# Altium integrated library Microchip Microcontroller 8-Bit PIC16 2.IntLib: 1656 symbols (part 36 of 56)
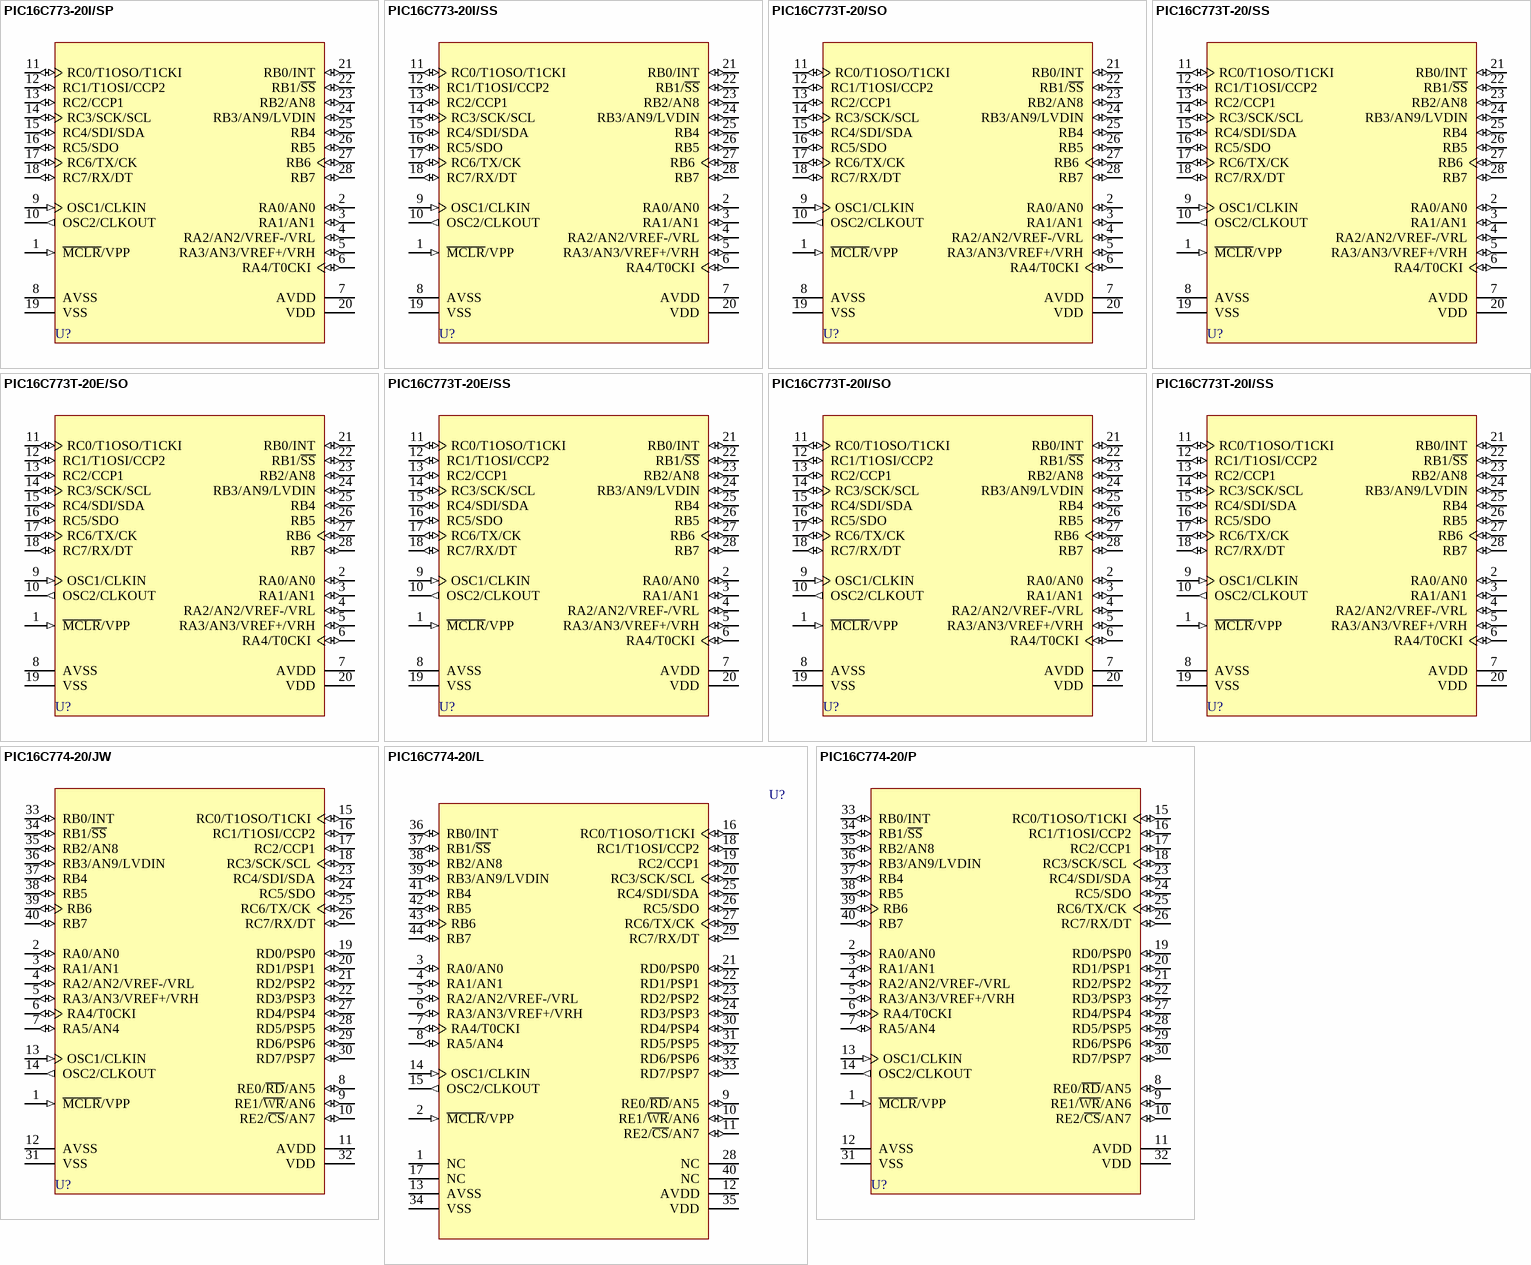
[diagram p143: symbols PIC16C773-20I/SP to PIC16C774-20/P]

## PIC16C773T-20E/SS
designator U?
8-Bit CMOS Microcontroller with 12-Bit A/D, 4K x 14 words EPROM, 256 x 8 Bytes RAM, 28-Pin SSOP, 4.0 to 5.5V Supply Range, Extended Temperature, Tape and Reel; Note: 25mA source/sink per I/O.; Published: 11-Oct-2004; LatestRevisionDate: 04-Mar-2005; LatestRevisionNote: Stylized 3D Model Added.; DatasheetVersion: DS30275A_1999; PackageVersion: 2005; PackageReference: SSOP-28; Publisher: Altium Limited; PackageDescription: SSOP, Plastic; 28 Leads; Body Width 5.2 mm; Pitch 0.65 mm; Code_JEDEC: MS-150; ComponentLink1Description: Manufacturer Link; ComponentLink1URL: http://www.microchip.com; ComponentLink2Description: Datasheet; ComponentLink2URL: http://ww1.microchip.com/downloads/en/DeviceDoc/30275a.pdf; ComponentLink3Description: Packaging Specification; ComponentLink3URL: http://ww1.microchip.com/downloads/en/PackagingSpec/00049AD.pdf
footprint SSOP-28 (SSOP, Plastic; 28 Leads; Body Width 5.2 mm; Pitch 0.65 mm)
3D model SSOP-28 (SSOP, Plastic; 28 Leads; Body Width 5.2 mm; Pitch 0.65 mm)
pins: 1 ~{MCLR}/VPP (in), 2 RA0/AN0 (io), 3 RA1/AN1 (io), 4 RA2/AN2/VREF-/VRL (io), 5 RA3/AN3/VREF+/VRH (io), 6 RA4/T0CKI (io), 7 AVDD (power), 8 AVSS (power), 9 OSC1/CLKIN (in), 10 OSC2/CLKOUT (out), 11 RC0/T1OSO/T1CKI (io), 12 RC1/T1OSI/CCP2 (io), 13 RC2/CCP1 (io), 14 RC3/SCK/SCL (io), 15 RC4/SDI/SDA (io), 16 RC5/SDO (io), 17 RC6/TX/CK (io), 18 RC7/RX/DT (io), 19 VSS (power), 20 VDD (power), 21 RB0/INT (io), 22 RB1/~{SS} (io), 23 RB2/AN8 (io), 24 RB3/AN9/LVDIN (io), 25 RB4 (io), 26 RB5 (io), 27 RB6 (io), 28 RB7 (io)

## PIC16C773T-20I/SO
designator U?
8-Bit CMOS Microcontroller with 12-Bit A/D, 4K x 14 words EPROM, 256 x 8 Bytes RAM, 28-Pin SOIC, 4.0 to 5.5V Supply Range, Industrial Temperature, Tape and Reel; Note: 25mA source/sink per I/O.; Published: 11-Oct-2004; LatestRevisionDate: 13-Apr-2006; LatestRevisionNote: IPC-7351 Footprint Added.; DatasheetVersion: DS30275A_1999; PackageVersion: 2005; PackageReference: SOIC300-28; Publisher: Altium Limited; PackageDescription: 28-Pin Small Outline Integrated Circuit 1.27 mm Pitch; Code_JEDEC: MS-013; ComponentLink1Description: Manufacturer Link; ComponentLink1URL: http://www.microchip.com; ComponentLink2Description: Datasheet; ComponentLink2URL: http://ww1.microchip.com/downloads/en/DeviceDoc/30275a.pdf; ComponentLink3Description: Packaging Specification; ComponentLink3URL: http://ww1.microchip.com/downloads/en/PackagingSpec/00049AD.pdf
footprint SOIC300-28_N (SOIC, 28-Leads, Body 17.9x7.5mm, Pitch 1.27mm, IPC Medium Density)
footprint SOIC300-28_L (SOIC, 28-Leads, Body 17.9x7.5mm, Pitch 1.27mm, IPC High Density)
footprint SOIC300-28_M (SOIC, 28-Leads, Body 17.9x7.5mm, Pitch 1.27mm, IPC Low Density)
3D model SOIC300-28 (28-Pin Small Outline Integrated Circuit 1.27 mm Pitch)
pins: 1 ~{MCLR}/VPP (in), 2 RA0/AN0 (io), 3 RA1/AN1 (io), 4 RA2/AN2/VREF-/VRL (io), 5 RA3/AN3/VREF+/VRH (io), 6 RA4/T0CKI (io), 7 AVDD (power), 8 AVSS (power), 9 OSC1/CLKIN (in), 10 OSC2/CLKOUT (out), 11 RC0/T1OSO/T1CKI (io), 12 RC1/T1OSI/CCP2 (io), 13 RC2/CCP1 (io), 14 RC3/SCK/SCL (io), 15 RC4/SDI/SDA (io), 16 RC5/SDO (io), 17 RC6/TX/CK (io), 18 RC7/RX/DT (io), 19 VSS (power), 20 VDD (power), 21 RB0/INT (io), 22 RB1/~{SS} (io), 23 RB2/AN8 (io), 24 RB3/AN9/LVDIN (io), 25 RB4 (io), 26 RB5 (io), 27 RB6 (io), 28 RB7 (io)

## PIC16C773T-20I/SS
designator U?
8-Bit CMOS Microcontroller with 12-Bit A/D, 4K x 14 words EPROM, 256 x 8 Bytes RAM, 28-Pin SSOP, 4.0 to 5.5V Supply Range, Industrial Temperature, Tape and Reel; Note: 25mA source/sink per I/O.; Published: 11-Oct-2004; LatestRevisionDate: 04-Mar-2005; LatestRevisionNote: Stylized 3D Model Added.; DatasheetVersion: DS30275A_1999; PackageVersion: 2005; PackageReference: SSOP-28; Publisher: Altium Limited; PackageDescription: SSOP, Plastic; 28 Leads; Body Width 5.2 mm; Pitch 0.65 mm; Code_JEDEC: MS-150; ComponentLink1Description: Manufacturer Link; ComponentLink1URL: http://www.microchip.com; ComponentLink2Description: Datasheet; ComponentLink2URL: http://ww1.microchip.com/downloads/en/DeviceDoc/30275a.pdf; ComponentLink3Description: Packaging Specification; ComponentLink3URL: http://ww1.microchip.com/downloads/en/PackagingSpec/00049AD.pdf
footprint SSOP-28 (SSOP, Plastic; 28 Leads; Body Width 5.2 mm; Pitch 0.65 mm)
3D model SSOP-28 (SSOP, Plastic; 28 Leads; Body Width 5.2 mm; Pitch 0.65 mm)
pins: 1 ~{MCLR}/VPP (in), 2 RA0/AN0 (io), 3 RA1/AN1 (io), 4 RA2/AN2/VREF-/VRL (io), 5 RA3/AN3/VREF+/VRH (io), 6 RA4/T0CKI (io), 7 AVDD (power), 8 AVSS (power), 9 OSC1/CLKIN (in), 10 OSC2/CLKOUT (out), 11 RC0/T1OSO/T1CKI (io), 12 RC1/T1OSI/CCP2 (io), 13 RC2/CCP1 (io), 14 RC3/SCK/SCL (io), 15 RC4/SDI/SDA (io), 16 RC5/SDO (io), 17 RC6/TX/CK (io), 18 RC7/RX/DT (io), 19 VSS (power), 20 VDD (power), 21 RB0/INT (io), 22 RB1/~{SS} (io), 23 RB2/AN8 (io), 24 RB3/AN9/LVDIN (io), 25 RB4 (io), 26 RB5 (io), 27 RB6 (io), 28 RB7 (io)

## PIC16C774-20/JW
designator U?
8-Bit CMOS Microcontroller with 12-Bit A/D, 4K x 14 words EPROM, 256 x 8 Bytes RAM, 40-Pin CERDIP, UV Erasable, 4.0 to 5.5V VDD Range, Commercial Temperature; Note: JW Devices can be programmed to any device configuration.; Note: JW Devices meet the electrical requirement of each oscillator type (including LC devices).; Note: 25mA source/sink per I/O.; Published: 11-Oct-2004; LatestRevisionDate: 04-Mar-2005; LatestRevisionNote: Stylized 3D Model Added.; DatasheetVersion: DS30275A_1999; PackageVersion: 2003; PackageReference: CERDIP600W-40; Publisher: Altium Limited; PackageDescription: CerDIP, Window; 40 Leads; Row Spacing 15.24 mm; Pitch 2.54 mm; Code_JEDEC: MO-103; ComponentLink1Description: Manufacturer Link; ComponentLink1URL: http://www.microchip.com; ComponentLink2Description: Datasheet; ComponentLink2URL: http://ww1.microchip.com/downloads/en/DeviceDoc/30275a.pdf; ComponentLink3Description: Packaging Specification; ComponentLink3URL: http://ww1.microchip.com/downloads/en/PackagingSpec/00049AD.pdf
footprint CERDIP600W-40 (CerDIP, Window; 40 Leads; Row Spacing 15.24 mm; Pitch 2.54 mm)
3D model CERDIP600W-40 (CerDIP, Window; 40 Leads; Row Spacing 15.24 mm; Pitch 2.54 mm)
pins: 1 ~{MCLR}/VPP (in), 2 RA0/AN0 (io), 3 RA1/AN1 (io), 4 RA2/AN2/VREF-/VRL (io), 5 RA3/AN3/VREF+/VRH (io), 6 RA4/T0CKI (io), 7 RA5/AN4 (io), 8 RE0/~{RD}/AN5 (io), 9 RE1/~{WR}/AN6 (io), 10 RE2/~{CS}/AN7 (io), 11 AVDD (power), 12 AVSS (power), 13 OSC1/CLKIN (in), 14 OSC2/CLKOUT (out), 15 RC0/T1OSO/T1CKI (io), 16 RC1/T1OSI/CCP2 (io), 17 RC2/CCP1 (io), 18 RC3/SCK/SCL (io), 19 RD0/PSP0 (io), 20 RD1/PSP1 (io), 21 RD2/PSP2 (io), 22 RD3/PSP3 (io), 23 RC4/SDI/SDA (io), 24 RC5/SDO (io), 25 RC6/TX/CK (io), 26 RC7/RX/DT (io), 27 RD4/PSP4 (io), 28 RD5/PSP5 (io), 29 RD6/PSP6 (io), 30 RD7/PSP7 (io), 31 VSS (power), 32 VDD (power), 33 RB0/INT (io), 34 RB1/~{SS} (io), 35 RB2/AN8 (io), 36 RB3/AN9/LVDIN (io), 37 RB4 (io), 38 RB5 (io), 39 RB6 (io), 40 RB7 (io)

## PIC16C774-20/L
designator U?
8-Bit CMOS Microcontroller with 12-Bit A/D, 4K x 14 words EPROM, 256 x 8 Bytes RAM, 44-Pin PLCC, 4.0 to 5.5V Supply Range, Commercial Temperature; Note: 25mA source/sink per I/O.; Published: 11-Oct-2004; LatestRevisionDate: 13-Apr-2006; LatestRevisionNote: IPC-7351 Footprint Added.; DatasheetVersion: DS30275A_1999; PackageVersion: 2003; PackageReference: PLCC-44; Publisher: Altium Limited; PackageDescription: 44-Pin Leaded Chip Carrier 1.27 mm Pitch; Code_JEDEC: MO-047; Code_IPC: PLCC-44; ComponentLink1Description: Manufacturer Link; ComponentLink1URL: http://www.microchip.com; ComponentLink2Description: Datasheet; ComponentLink2URL: http://ww1.microchip.com/downloads/en/DeviceDoc/30275a.pdf; ComponentLink3Description: Packaging Specification; ComponentLink3URL: http://ww1.microchip.com/downloads/en/PackagingSpec/00049AD.pdf
footprint PLCC-44_N (Leaded Chip Carrier, 44-Leads, Body 16.6x16.6mm, Pitch 1.27mm, IPC Medium Density)
footprint PLCC-44_L (Leaded Chip Carrier, 44-Leads, Body 16.6x16.6mm, Pitch 1.27mm, IPC High Density)
footprint PLCC-44_M (Leaded Chip Carrier, 44-Leads, Body 16.6x16.6mm, Pitch 1.27mm, IPC Low Density)
3D model PIC16C774-PLCC-44 (44-Pin Leaded Chip Carrier 1.27 mm Pitch)
pins: 1 NC, 2 ~{MCLR}/VPP (in), 3 RA0/AN0 (io), 4 RA1/AN1 (io), 5 RA2/AN2/VREF-/VRL (io), 6 RA3/AN3/VREF+/VRH (io), 7 RA4/T0CKI (io), 8 RA5/AN4 (io), 9 RE0/~{RD}/AN5 (io), 10 RE1/~{WR}/AN6 (io), 11 RE2/~{CS}/AN7 (io), 12 AVDD (power), 13 AVSS (power), 14 OSC1/CLKIN (in), 15 OSC2/CLKOUT (out), 16 RC0/T1OSO/T1CKI (io), 17 NC, 18 RC1/T1OSI/CCP2 (io), 19 RC2/CCP1 (io), 20 RC3/SCK/SCL (io), 21 RD0/PSP0 (io), 22 RD1/PSP1 (io), 23 RD2/PSP2 (io), 24 RD3/PSP3 (io), 25 RC4/SDI/SDA (io), 26 RC5/SDO (io), 27 RC6/TX/CK (io), 28 NC, 29 RC7/RX/DT (io), 30 RD4/PSP4 (io), 31 RD5/PSP5 (io), 32 RD6/PSP6 (io), 33 RD7/PSP7 (io), 34 VSS (power), 35 VDD (power), 36 RB0/INT (io), 37 RB1/~{SS} (io), 38 RB2/AN8 (io), 39 RB3/AN9/LVDIN (io), 40 NC, 41 RB4 (io), 42 RB5 (io), 43 RB6 (io), 44 RB7 (io)

## PIC16C774-20/P
designator U?
8-Bit CMOS Microcontroller with 12-Bit A/D, 4K x 14 words EPROM, 256 x 8 Bytes RAM, 40-Pin PDIP, 4.0 to 5.5V Supply Range, Commercial Temperature; Note: 25mA source/sink per I/O.; Published: 11-Oct-2004; LatestRevisionDate: 04-Mar-2005; LatestRevisionNote: Stylized 3D Model Added.; DatasheetVersion: DS30275A_1999; PackageVersion: 2003; PackageReference: PDIP600-40; Publisher: Altium Limited; PackageDescription: DIP, Plastic; 40 Leads; Row Spacing 15.24 mm; Pitch 2.54 mm; Code_JEDEC: MO-011; ComponentLink1Description: Manufacturer Link; ComponentLink1URL: http://www.microchip.com; ComponentLink2Description: Datasheet; ComponentLink2URL: http://ww1.microchip.com/downloads/en/DeviceDoc/30275a.pdf; ComponentLink3Description: Packaging Specification; ComponentLink3URL: http://ww1.microchip.com/downloads/en/PackagingSpec/00049AD.pdf
footprint PDIP600-40 (DIP, Plastic; 40 Leads; Row Spacing 15.24 mm; Pitch 2.54 mm)
3D model PDIP600-40 (DIP, Plastic; 40 Leads; Row Spacing 15.24 mm; Pitch 2.54 mm)
pins: 1 ~{MCLR}/VPP (in), 2 RA0/AN0 (io), 3 RA1/AN1 (io), 4 RA2/AN2/VREF-/VRL (io), 5 RA3/AN3/VREF+/VRH (io), 6 RA4/T0CKI (io), 7 RA5/AN4 (io), 8 RE0/~{RD}/AN5 (io), 9 RE1/~{WR}/AN6 (io), 10 RE2/~{CS}/AN7 (io), 11 AVDD (power), 12 AVSS (power), 13 OSC1/CLKIN (in), 14 OSC2/CLKOUT (out), 15 RC0/T1OSO/T1CKI (io), 16 RC1/T1OSI/CCP2 (io), 17 RC2/CCP1 (io), 18 RC3/SCK/SCL (io), 19 RD0/PSP0 (io), 20 RD1/PSP1 (io), 21 RD2/PSP2 (io), 22 RD3/PSP3 (io), 23 RC4/SDI/SDA (io), 24 RC5/SDO (io), 25 RC6/TX/CK (io), 26 RC7/RX/DT (io), 27 RD4/PSP4 (io), 28 RD5/PSP5 (io), 29 RD6/PSP6 (io), 30 RD7/PSP7 (io), 31 VSS (power), 32 VDD (power), 33 RB0/INT (io), 34 RB1/~{SS} (io), 35 RB2/AN8 (io), 36 RB3/AN9/LVDIN (io), 37 RB4 (io), 38 RB5 (io), 39 RB6 (io), 40 RB7 (io)

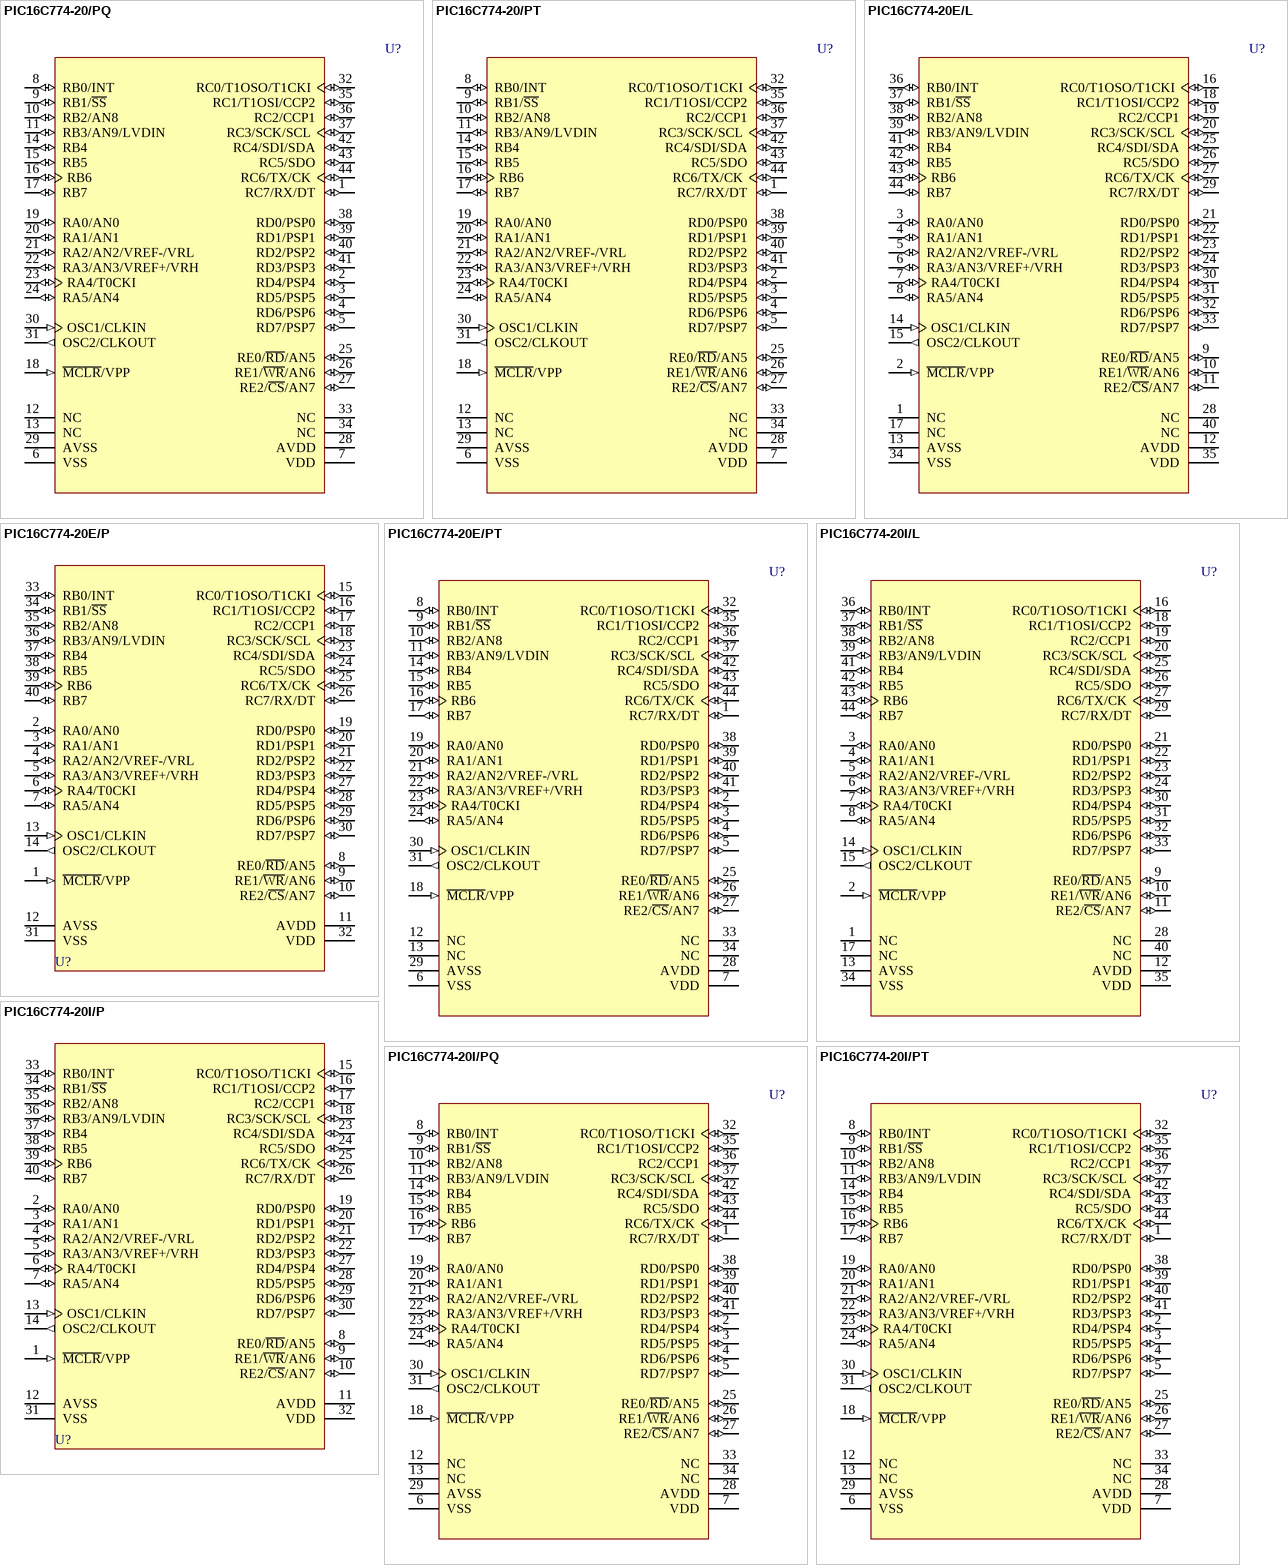
[diagram p67: symbols PIC16C774-20/PQ to PIC16C774-20I/PT]

## PIC16C774-20/PQ
designator U?
8-Bit CMOS Microcontroller with 12-Bit A/D, 4K x 14 words EPROM, 256 x 8 Bytes RAM, 44-Pin MQFP, 4.0 to 5.5V Supply Range, Commercial Temperature; Note: 25mA source/sink per I/O.; Published: 11-Oct-2004; LatestRevisionDate: 13-Apr-2006; LatestRevisionNote: IPC-7351 Footprint Added.; DatasheetVersion: DS30275A_1999; PackageVersion: 2003; PackageReference: MQFP-44; Publisher: Altium Limited; PackageDescription: 44-Pin Plastic Metric Quad Flat Pack 0.8 mm Pitch, 1.6/0.15 mm Lead Form; Code_JEDEC: MS-022; Code_IPC: QFP80P1320X1320-44; ComponentLink1Description: Manufacturer Link; ComponentLink1URL: http://www.microchip.com; ComponentLink2Description: Datasheet; ComponentLink2URL: http://ww1.microchip.com/downloads/en/DeviceDoc/30275a.pdf; ComponentLink3Description: Packaging Specification; ComponentLink3URL: http://ww1.microchip.com/downloads/en/PackagingSpec/00049AD.pdf
footprint MQFP-44_N (QFP, 44-Leads, Body 10x10mm, Pitch 0.8mm, IPC Medium Density)
footprint MQFP-44_L (QFP, 44-Leads, Body 10x10mm, Pitch 0.8mm, IPC High Density)
footprint MQFP-44_M (QFP, 44-Leads, Body 10x10mm, Pitch 0.8mm, IPC Low Density)
3D model PIC16C774-MQFP-44 (44-Pin Plastic Metric Quad Flat Pack 0.8 mm Pitch, 1.6/0.15 mm Lead Form)
pins: 1 RC7/RX/DT (io), 2 RD4/PSP4 (io), 3 RD5/PSP5 (io), 4 RD6/PSP6 (io), 5 RD7/PSP7 (io), 6 VSS (power), 7 VDD (power), 8 RB0/INT (io), 9 RB1/~{SS} (io), 10 RB2/AN8 (io), 11 RB3/AN9/LVDIN (io), 12 NC, 13 NC, 14 RB4 (io), 15 RB5 (io), 16 RB6 (io), 17 RB7 (io), 18 ~{MCLR}/VPP (in), 19 RA0/AN0 (io), 20 RA1/AN1 (io), 21 RA2/AN2/VREF-/VRL (io), 22 RA3/AN3/VREF+/VRH (io), 23 RA4/T0CKI (io), 24 RA5/AN4 (io), 25 RE0/~{RD}/AN5 (io), 26 RE1/~{WR}/AN6 (io), 27 RE2/~{CS}/AN7 (io), 28 AVDD (power), 29 AVSS (power), 30 OSC1/CLKIN (in), 31 OSC2/CLKOUT (out), 32 RC0/T1OSO/T1CKI (io), 33 NC, 34 NC, 35 RC1/T1OSI/CCP2 (io), 36 RC2/CCP1 (io), 37 RC3/SCK/SCL (io), 38 RD0/PSP0 (io), 39 RD1/PSP1 (io), 40 RD2/PSP2 (io), 41 RD3/PSP3 (io), 42 RC4/SDI/SDA (io), 43 RC5/SDO (io), 44 RC6/TX/CK (io)

## PIC16C774-20/PT
designator U?
8-Bit CMOS Microcontroller with 12-Bit A/D, 4K x 14 words EPROM, 256 x 8 Bytes RAM, 44-Pin TQFP, 4.0 to 5.5V Supply Range, Commercial Temperature; Note: 25mA source/sink per I/O.; Published: 11-Oct-2004; LatestRevisionDate: 13-Apr-2006; LatestRevisionNote: IPC-7351 Footprint Added.; DatasheetVersion: DS30275A_1999; PackageVersion: 2003; PackageReference: TQFP-44; Publisher: Altium Limited; PackageDescription: 44-Pin Thin Quad Flat Pack 0.8 mm Pitch, 1.0/0.1 mm Lead Form; Code_JEDEC: MS-026; ComponentLink1Description: Manufacturer Link; ComponentLink1URL: http://www.microchip.com; ComponentLink2Description: Datasheet; ComponentLink2URL: http://ww1.microchip.com/downloads/en/DeviceDoc/30275a.pdf; ComponentLink3Description: Packaging Specification; ComponentLink3URL: http://ww1.microchip.com/downloads/en/PackagingSpec/00049AD.pdf
footprint TQFP-44_N (Thin QFP, 44-Leads, Body 10x10mm, Pitch 0.8mm, IPC Medium Density)
footprint TQFP-44_L (Thin QFP, 44-Leads, Body 10x10mm, Pitch 0.8mm, IPC High Density)
footprint TQFP-44_M (Thin QFP, 44-Leads, Body 10x10mm, Pitch 0.8mm, IPC Low Density)
3D model PIC16C774-TQFP-44 (44-Pin Thin Quad Flat Pack 0.8 mm Pitch, 1.0/0.1 mm Lead Form)
pins: 1 RC7/RX/DT (io), 2 RD4/PSP4 (io), 3 RD5/PSP5 (io), 4 RD6/PSP6 (io), 5 RD7/PSP7 (io), 6 VSS (power), 7 VDD (power), 8 RB0/INT (io), 9 RB1/~{SS} (io), 10 RB2/AN8 (io), 11 RB3/AN9/LVDIN (io), 12 NC, 13 NC, 14 RB4 (io), 15 RB5 (io), 16 RB6 (io), 17 RB7 (io), 18 ~{MCLR}/VPP (in), 19 RA0/AN0 (io), 20 RA1/AN1 (io), 21 RA2/AN2/VREF-/VRL (io), 22 RA3/AN3/VREF+/VRH (io), 23 RA4/T0CKI (io), 24 RA5/AN4 (io), 25 RE0/~{RD}/AN5 (io), 26 RE1/~{WR}/AN6 (io), 27 RE2/~{CS}/AN7 (io), 28 AVDD (power), 29 AVSS (power), 30 OSC1/CLKIN (in), 31 OSC2/CLKOUT (out), 32 RC0/T1OSO/T1CKI (io), 33 NC, 34 NC, 35 RC1/T1OSI/CCP2 (io), 36 RC2/CCP1 (io), 37 RC3/SCK/SCL (io), 38 RD0/PSP0 (io), 39 RD1/PSP1 (io), 40 RD2/PSP2 (io), 41 RD3/PSP3 (io), 42 RC4/SDI/SDA (io), 43 RC5/SDO (io), 44 RC6/TX/CK (io)

## PIC16C774-20E/L
designator U?
8-Bit CMOS Microcontroller with 12-Bit A/D, 4K x 14 words EPROM, 256 x 8 Bytes RAM, 44-Pin PLCC, 4.0 to 5.5V Supply Range, Extended Temperature; Note: 25mA source/sink per I/O.; Published: 11-Oct-2004; LatestRevisionDate: 13-Apr-2006; LatestRevisionNote: IPC-7351 Footprint Added.; DatasheetVersion: DS30275A_1999; PackageVersion: 2003; PackageReference: PLCC-44; Publisher: Altium Limited; PackageDescription: 44-Pin Leaded Chip Carrier 1.27 mm Pitch; Code_JEDEC: MO-047; Code_IPC: PLCC-44; ComponentLink1Description: Manufacturer Link; ComponentLink1URL: http://www.microchip.com; ComponentLink2Description: Datasheet; ComponentLink2URL: http://ww1.microchip.com/downloads/en/DeviceDoc/30275a.pdf; ComponentLink3Description: Packaging Specification; ComponentLink3URL: http://ww1.microchip.com/downloads/en/PackagingSpec/00049AD.pdf
footprint PLCC-44_N (Leaded Chip Carrier, 44-Leads, Body 16.6x16.6mm, Pitch 1.27mm, IPC Medium Density)
footprint PLCC-44_L (Leaded Chip Carrier, 44-Leads, Body 16.6x16.6mm, Pitch 1.27mm, IPC High Density)
footprint PLCC-44_M (Leaded Chip Carrier, 44-Leads, Body 16.6x16.6mm, Pitch 1.27mm, IPC Low Density)
3D model PIC16C774-PLCC-44 (44-Pin Leaded Chip Carrier 1.27 mm Pitch)
pins: 1 NC, 2 ~{MCLR}/VPP (in), 3 RA0/AN0 (io), 4 RA1/AN1 (io), 5 RA2/AN2/VREF-/VRL (io), 6 RA3/AN3/VREF+/VRH (io), 7 RA4/T0CKI (io), 8 RA5/AN4 (io), 9 RE0/~{RD}/AN5 (io), 10 RE1/~{WR}/AN6 (io), 11 RE2/~{CS}/AN7 (io), 12 AVDD (power), 13 AVSS (power), 14 OSC1/CLKIN (in), 15 OSC2/CLKOUT (out), 16 RC0/T1OSO/T1CKI (io), 17 NC, 18 RC1/T1OSI/CCP2 (io), 19 RC2/CCP1 (io), 20 RC3/SCK/SCL (io), 21 RD0/PSP0 (io), 22 RD1/PSP1 (io), 23 RD2/PSP2 (io), 24 RD3/PSP3 (io), 25 RC4/SDI/SDA (io), 26 RC5/SDO (io), 27 RC6/TX/CK (io), 28 NC, 29 RC7/RX/DT (io), 30 RD4/PSP4 (io), 31 RD5/PSP5 (io), 32 RD6/PSP6 (io), 33 RD7/PSP7 (io), 34 VSS (power), 35 VDD (power), 36 RB0/INT (io), 37 RB1/~{SS} (io), 38 RB2/AN8 (io), 39 RB3/AN9/LVDIN (io), 40 NC, 41 RB4 (io), 42 RB5 (io), 43 RB6 (io), 44 RB7 (io)

## PIC16C774-20E/P
designator U?
8-Bit CMOS Microcontroller with 12-Bit A/D, 4K x 14 words EPROM, 256 x 8 Bytes RAM, 40-Pin PDIP, 4.0 to 5.5V Supply Range, Extended Temperature; Note: 25mA source/sink per I/O.; Published: 11-Oct-2004; LatestRevisionDate: 04-Mar-2005; LatestRevisionNote: Stylized 3D Model Added.; DatasheetVersion: DS30275A_1999; PackageVersion: 2003; PackageReference: PDIP600-40; Publisher: Altium Limited; PackageDescription: DIP, Plastic; 40 Leads; Row Spacing 15.24 mm; Pitch 2.54 mm; Code_JEDEC: MO-011; ComponentLink1Description: Manufacturer Link; ComponentLink1URL: http://www.microchip.com; ComponentLink2Description: Datasheet; ComponentLink2URL: http://ww1.microchip.com/downloads/en/DeviceDoc/30275a.pdf; ComponentLink3Description: Packaging Specification; ComponentLink3URL: http://ww1.microchip.com/downloads/en/PackagingSpec/00049AD.pdf
footprint PDIP600-40 (DIP, Plastic; 40 Leads; Row Spacing 15.24 mm; Pitch 2.54 mm)
3D model PDIP600-40 (DIP, Plastic; 40 Leads; Row Spacing 15.24 mm; Pitch 2.54 mm)
pins: 1 ~{MCLR}/VPP (in), 2 RA0/AN0 (io), 3 RA1/AN1 (io), 4 RA2/AN2/VREF-/VRL (io), 5 RA3/AN3/VREF+/VRH (io), 6 RA4/T0CKI (io), 7 RA5/AN4 (io), 8 RE0/~{RD}/AN5 (io), 9 RE1/~{WR}/AN6 (io), 10 RE2/~{CS}/AN7 (io), 11 AVDD (power), 12 AVSS (power), 13 OSC1/CLKIN (in), 14 OSC2/CLKOUT (out), 15 RC0/T1OSO/T1CKI (io), 16 RC1/T1OSI/CCP2 (io), 17 RC2/CCP1 (io), 18 RC3/SCK/SCL (io), 19 RD0/PSP0 (io), 20 RD1/PSP1 (io), 21 RD2/PSP2 (io), 22 RD3/PSP3 (io), 23 RC4/SDI/SDA (io), 24 RC5/SDO (io), 25 RC6/TX/CK (io), 26 RC7/RX/DT (io), 27 RD4/PSP4 (io), 28 RD5/PSP5 (io), 29 RD6/PSP6 (io), 30 RD7/PSP7 (io), 31 VSS (power), 32 VDD (power), 33 RB0/INT (io), 34 RB1/~{SS} (io), 35 RB2/AN8 (io), 36 RB3/AN9/LVDIN (io), 37 RB4 (io), 38 RB5 (io), 39 RB6 (io), 40 RB7 (io)

## PIC16C774-20E/PT
designator U?
8-Bit CMOS Microcontroller with 12-Bit A/D, 4K x 14 words EPROM, 256 x 8 Bytes RAM, 44-Pin TQFP, 4.0 to 5.5V Supply Range, Extended Temperature; Note: 25mA source/sink per I/O.; Published: 11-Oct-2004; LatestRevisionDate: 13-Apr-2006; LatestRevisionNote: IPC-7351 Footprint Added.; DatasheetVersion: DS30275A_1999; PackageVersion: 2003; PackageReference: TQFP-44; Publisher: Altium Limited; PackageDescription: 44-Pin Thin Quad Flat Pack 0.8 mm Pitch, 1.0/0.1 mm Lead Form; Code_JEDEC: MS-026; ComponentLink1Description: Manufacturer Link; ComponentLink1URL: http://www.microchip.com; ComponentLink2Description: Datasheet; ComponentLink2URL: http://ww1.microchip.com/downloads/en/DeviceDoc/30275a.pdf; ComponentLink3Description: Packaging Specification; ComponentLink3URL: http://ww1.microchip.com/downloads/en/PackagingSpec/00049AD.pdf
footprint TQFP-44_N (Thin QFP, 44-Leads, Body 10x10mm, Pitch 0.8mm, IPC Medium Density)
footprint TQFP-44_L (Thin QFP, 44-Leads, Body 10x10mm, Pitch 0.8mm, IPC High Density)
footprint TQFP-44_M (Thin QFP, 44-Leads, Body 10x10mm, Pitch 0.8mm, IPC Low Density)
3D model PIC16C774-TQFP-44 (44-Pin Thin Quad Flat Pack 0.8 mm Pitch, 1.0/0.1 mm Lead Form)
pins: 1 RC7/RX/DT (io), 2 RD4/PSP4 (io), 3 RD5/PSP5 (io), 4 RD6/PSP6 (io), 5 RD7/PSP7 (io), 6 VSS (power), 7 VDD (power), 8 RB0/INT (io), 9 RB1/~{SS} (io), 10 RB2/AN8 (io), 11 RB3/AN9/LVDIN (io), 12 NC, 13 NC, 14 RB4 (io), 15 RB5 (io), 16 RB6 (io), 17 RB7 (io), 18 ~{MCLR}/VPP (in), 19 RA0/AN0 (io), 20 RA1/AN1 (io), 21 RA2/AN2/VREF-/VRL (io), 22 RA3/AN3/VREF+/VRH (io), 23 RA4/T0CKI (io), 24 RA5/AN4 (io), 25 RE0/~{RD}/AN5 (io), 26 RE1/~{WR}/AN6 (io), 27 RE2/~{CS}/AN7 (io), 28 AVDD (power), 29 AVSS (power), 30 OSC1/CLKIN (in), 31 OSC2/CLKOUT (out), 32 RC0/T1OSO/T1CKI (io), 33 NC, 34 NC, 35 RC1/T1OSI/CCP2 (io), 36 RC2/CCP1 (io), 37 RC3/SCK/SCL (io), 38 RD0/PSP0 (io), 39 RD1/PSP1 (io), 40 RD2/PSP2 (io), 41 RD3/PSP3 (io), 42 RC4/SDI/SDA (io), 43 RC5/SDO (io), 44 RC6/TX/CK (io)

## PIC16C774-20I/L
designator U?
8-Bit CMOS Microcontroller with 12-Bit A/D, 4K x 14 words EPROM, 256 x 8 Bytes RAM, 44-Pin PLCC, 4.0 to 5.5V Supply Range, Industrial Temperature; Note: 25mA source/sink per I/O.; Published: 11-Oct-2004; LatestRevisionDate: 13-Apr-2006; LatestRevisionNote: IPC-7351 Footprint Added.; DatasheetVersion: DS30275A_1999; PackageVersion: 2003; PackageReference: PLCC-44; Publisher: Altium Limited; PackageDescription: 44-Pin Leaded Chip Carrier 1.27 mm Pitch; Code_JEDEC: MO-047; Code_IPC: PLCC-44; ComponentLink1Description: Manufacturer Link; ComponentLink1URL: http://www.microchip.com; ComponentLink2Description: Datasheet; ComponentLink2URL: http://ww1.microchip.com/downloads/en/DeviceDoc/30275a.pdf; ComponentLink3Description: Packaging Specification; ComponentLink3URL: http://ww1.microchip.com/downloads/en/PackagingSpec/00049AD.pdf
footprint PLCC-44_N (Leaded Chip Carrier, 44-Leads, Body 16.6x16.6mm, Pitch 1.27mm, IPC Medium Density)
footprint PLCC-44_L (Leaded Chip Carrier, 44-Leads, Body 16.6x16.6mm, Pitch 1.27mm, IPC High Density)
footprint PLCC-44_M (Leaded Chip Carrier, 44-Leads, Body 16.6x16.6mm, Pitch 1.27mm, IPC Low Density)
3D model PIC16C774-PLCC-44 (44-Pin Leaded Chip Carrier 1.27 mm Pitch)
pins: 1 NC, 2 ~{MCLR}/VPP (in), 3 RA0/AN0 (io), 4 RA1/AN1 (io), 5 RA2/AN2/VREF-/VRL (io), 6 RA3/AN3/VREF+/VRH (io), 7 RA4/T0CKI (io), 8 RA5/AN4 (io), 9 RE0/~{RD}/AN5 (io), 10 RE1/~{WR}/AN6 (io), 11 RE2/~{CS}/AN7 (io), 12 AVDD (power), 13 AVSS (power), 14 OSC1/CLKIN (in), 15 OSC2/CLKOUT (out), 16 RC0/T1OSO/T1CKI (io), 17 NC, 18 RC1/T1OSI/CCP2 (io), 19 RC2/CCP1 (io), 20 RC3/SCK/SCL (io), 21 RD0/PSP0 (io), 22 RD1/PSP1 (io), 23 RD2/PSP2 (io), 24 RD3/PSP3 (io), 25 RC4/SDI/SDA (io), 26 RC5/SDO (io), 27 RC6/TX/CK (io), 28 NC, 29 RC7/RX/DT (io), 30 RD4/PSP4 (io), 31 RD5/PSP5 (io), 32 RD6/PSP6 (io), 33 RD7/PSP7 (io), 34 VSS (power), 35 VDD (power), 36 RB0/INT (io), 37 RB1/~{SS} (io), 38 RB2/AN8 (io), 39 RB3/AN9/LVDIN (io), 40 NC, 41 RB4 (io), 42 RB5 (io), 43 RB6 (io), 44 RB7 (io)

## PIC16C774-20I/P
designator U?
8-Bit CMOS Microcontroller with 12-Bit A/D, 4K x 14 words EPROM, 256 x 8 Bytes RAM, 40-Pin PDIP, 4.0 to 5.5V Supply Range, Industrial Temperature; Note: 25mA source/sink per I/O.; Published: 11-Oct-2004; LatestRevisionDate: 04-Mar-2005; LatestRevisionNote: Stylized 3D Model Added.; DatasheetVersion: DS30275A_1999; PackageVersion: 2003; PackageReference: PDIP600-40; Publisher: Altium Limited; PackageDescription: DIP, Plastic; 40 Leads; Row Spacing 15.24 mm; Pitch 2.54 mm; Code_JEDEC: MO-011; ComponentLink1Description: Manufacturer Link; ComponentLink1URL: http://www.microchip.com; ComponentLink2Description: Datasheet; ComponentLink2URL: http://ww1.microchip.com/downloads/en/DeviceDoc/30275a.pdf; ComponentLink3Description: Packaging Specification; ComponentLink3URL: http://ww1.microchip.com/downloads/en/PackagingSpec/00049AD.pdf
footprint PDIP600-40 (DIP, Plastic; 40 Leads; Row Spacing 15.24 mm; Pitch 2.54 mm)
3D model PDIP600-40 (DIP, Plastic; 40 Leads; Row Spacing 15.24 mm; Pitch 2.54 mm)
pins: 1 ~{MCLR}/VPP (in), 2 RA0/AN0 (io), 3 RA1/AN1 (io), 4 RA2/AN2/VREF-/VRL (io), 5 RA3/AN3/VREF+/VRH (io), 6 RA4/T0CKI (io), 7 RA5/AN4 (io), 8 RE0/~{RD}/AN5 (io), 9 RE1/~{WR}/AN6 (io), 10 RE2/~{CS}/AN7 (io), 11 AVDD (power), 12 AVSS (power), 13 OSC1/CLKIN (in), 14 OSC2/CLKOUT (out), 15 RC0/T1OSO/T1CKI (io), 16 RC1/T1OSI/CCP2 (io), 17 RC2/CCP1 (io), 18 RC3/SCK/SCL (io), 19 RD0/PSP0 (io), 20 RD1/PSP1 (io), 21 RD2/PSP2 (io), 22 RD3/PSP3 (io), 23 RC4/SDI/SDA (io), 24 RC5/SDO (io), 25 RC6/TX/CK (io), 26 RC7/RX/DT (io), 27 RD4/PSP4 (io), 28 RD5/PSP5 (io), 29 RD6/PSP6 (io), 30 RD7/PSP7 (io), 31 VSS (power), 32 VDD (power), 33 RB0/INT (io), 34 RB1/~{SS} (io), 35 RB2/AN8 (io), 36 RB3/AN9/LVDIN (io), 37 RB4 (io), 38 RB5 (io), 39 RB6 (io), 40 RB7 (io)

## PIC16C774-20I/PQ
designator U?
8-Bit CMOS Microcontroller with 12-Bit A/D, 4K x 14 words EPROM, 256 x 8 Bytes RAM, 44-Pin MQFP, 4.0 to 5.5V Supply Range, Industrial Temperature; Note: 25mA source/sink per I/O.; Published: 11-Oct-2004; LatestRevisionDate: 13-Apr-2006; LatestRevisionNote: IPC-7351 Footprint Added.; DatasheetVersion: DS30275A_1999; PackageVersion: 2003; PackageReference: MQFP-44; Publisher: Altium Limited; PackageDescription: 44-Pin Plastic Metric Quad Flat Pack 0.8 mm Pitch, 1.6/0.15 mm Lead Form; Code_JEDEC: MS-022; Code_IPC: QFP80P1320X1320-44; ComponentLink1Description: Manufacturer Link; ComponentLink1URL: http://www.microchip.com; ComponentLink2Description: Datasheet; ComponentLink2URL: http://ww1.microchip.com/downloads/en/DeviceDoc/30275a.pdf; ComponentLink3Description: Packaging Specification; ComponentLink3URL: http://ww1.microchip.com/downloads/en/PackagingSpec/00049AD.pdf
footprint MQFP-44_N (QFP, 44-Leads, Body 10x10mm, Pitch 0.8mm, IPC Medium Density)
footprint MQFP-44_L (QFP, 44-Leads, Body 10x10mm, Pitch 0.8mm, IPC High Density)
footprint MQFP-44_M (QFP, 44-Leads, Body 10x10mm, Pitch 0.8mm, IPC Low Density)
3D model PIC16C774-MQFP-44 (44-Pin Plastic Metric Quad Flat Pack 0.8 mm Pitch, 1.6/0.15 mm Lead Form)
pins: 1 RC7/RX/DT (io), 2 RD4/PSP4 (io), 3 RD5/PSP5 (io), 4 RD6/PSP6 (io), 5 RD7/PSP7 (io), 6 VSS (power), 7 VDD (power), 8 RB0/INT (io), 9 RB1/~{SS} (io), 10 RB2/AN8 (io), 11 RB3/AN9/LVDIN (io), 12 NC, 13 NC, 14 RB4 (io), 15 RB5 (io), 16 RB6 (io), 17 RB7 (io), 18 ~{MCLR}/VPP (in), 19 RA0/AN0 (io), 20 RA1/AN1 (io), 21 RA2/AN2/VREF-/VRL (io), 22 RA3/AN3/VREF+/VRH (io), 23 RA4/T0CKI (io), 24 RA5/AN4 (io), 25 RE0/~{RD}/AN5 (io), 26 RE1/~{WR}/AN6 (io), 27 RE2/~{CS}/AN7 (io), 28 AVDD (power), 29 AVSS (power), 30 OSC1/CLKIN (in), 31 OSC2/CLKOUT (out), 32 RC0/T1OSO/T1CKI (io), 33 NC, 34 NC, 35 RC1/T1OSI/CCP2 (io), 36 RC2/CCP1 (io), 37 RC3/SCK/SCL (io), 38 RD0/PSP0 (io), 39 RD1/PSP1 (io), 40 RD2/PSP2 (io), 41 RD3/PSP3 (io), 42 RC4/SDI/SDA (io), 43 RC5/SDO (io), 44 RC6/TX/CK (io)

## PIC16C774-20I/PT
designator U?
8-Bit CMOS Microcontroller with 12-Bit A/D, 4K x 14 words EPROM, 256 x 8 Bytes RAM, 44-Pin TQFP, 4.0 to 5.5V Supply Range, Industrial Temperature; Note: 25mA source/sink per I/O.; Published: 11-Oct-2004; LatestRevisionDate: 13-Apr-2006; LatestRevisionNote: IPC-7351 Footprint Added.; DatasheetVersion: DS30275A_1999; PackageVersion: 2003; PackageReference: TQFP-44; Publisher: Altium Limited; PackageDescription: 44-Pin Thin Quad Flat Pack 0.8 mm Pitch, 1.0/0.1 mm Lead Form; Code_JEDEC: MS-026; ComponentLink1Description: Manufacturer Link; ComponentLink1URL: http://www.microchip.com; ComponentLink2Description: Datasheet; ComponentLink2URL: http://ww1.microchip.com/downloads/en/DeviceDoc/30275a.pdf; ComponentLink3Description: Packaging Specification; ComponentLink3URL: http://ww1.microchip.com/downloads/en/PackagingSpec/00049AD.pdf
footprint TQFP-44_N (Thin QFP, 44-Leads, Body 10x10mm, Pitch 0.8mm, IPC Medium Density)
footprint TQFP-44_L (Thin QFP, 44-Leads, Body 10x10mm, Pitch 0.8mm, IPC High Density)
footprint TQFP-44_M (Thin QFP, 44-Leads, Body 10x10mm, Pitch 0.8mm, IPC Low Density)
3D model PIC16C774-TQFP-44 (44-Pin Thin Quad Flat Pack 0.8 mm Pitch, 1.0/0.1 mm Lead Form)
pins: 1 RC7/RX/DT (io), 2 RD4/PSP4 (io), 3 RD5/PSP5 (io), 4 RD6/PSP6 (io), 5 RD7/PSP7 (io), 6 VSS (power), 7 VDD (power), 8 RB0/INT (io), 9 RB1/~{SS} (io), 10 RB2/AN8 (io), 11 RB3/AN9/LVDIN (io), 12 NC, 13 NC, 14 RB4 (io), 15 RB5 (io), 16 RB6 (io), 17 RB7 (io), 18 ~{MCLR}/VPP (in), 19 RA0/AN0 (io), 20 RA1/AN1 (io), 21 RA2/AN2/VREF-/VRL (io), 22 RA3/AN3/VREF+/VRH (io), 23 RA4/T0CKI (io), 24 RA5/AN4 (io), 25 RE0/~{RD}/AN5 (io), 26 RE1/~{WR}/AN6 (io), 27 RE2/~{CS}/AN7 (io), 28 AVDD (power), 29 AVSS (power), 30 OSC1/CLKIN (in), 31 OSC2/CLKOUT (out), 32 RC0/T1OSO/T1CKI (io), 33 NC, 34 NC, 35 RC1/T1OSI/CCP2 (io), 36 RC2/CCP1 (io), 37 RC3/SCK/SCL (io), 38 RD0/PSP0 (io), 39 RD1/PSP1 (io), 40 RD2/PSP2 (io), 41 RD3/PSP3 (io), 42 RC4/SDI/SDA (io), 43 RC5/SDO (io), 44 RC6/TX/CK (io)

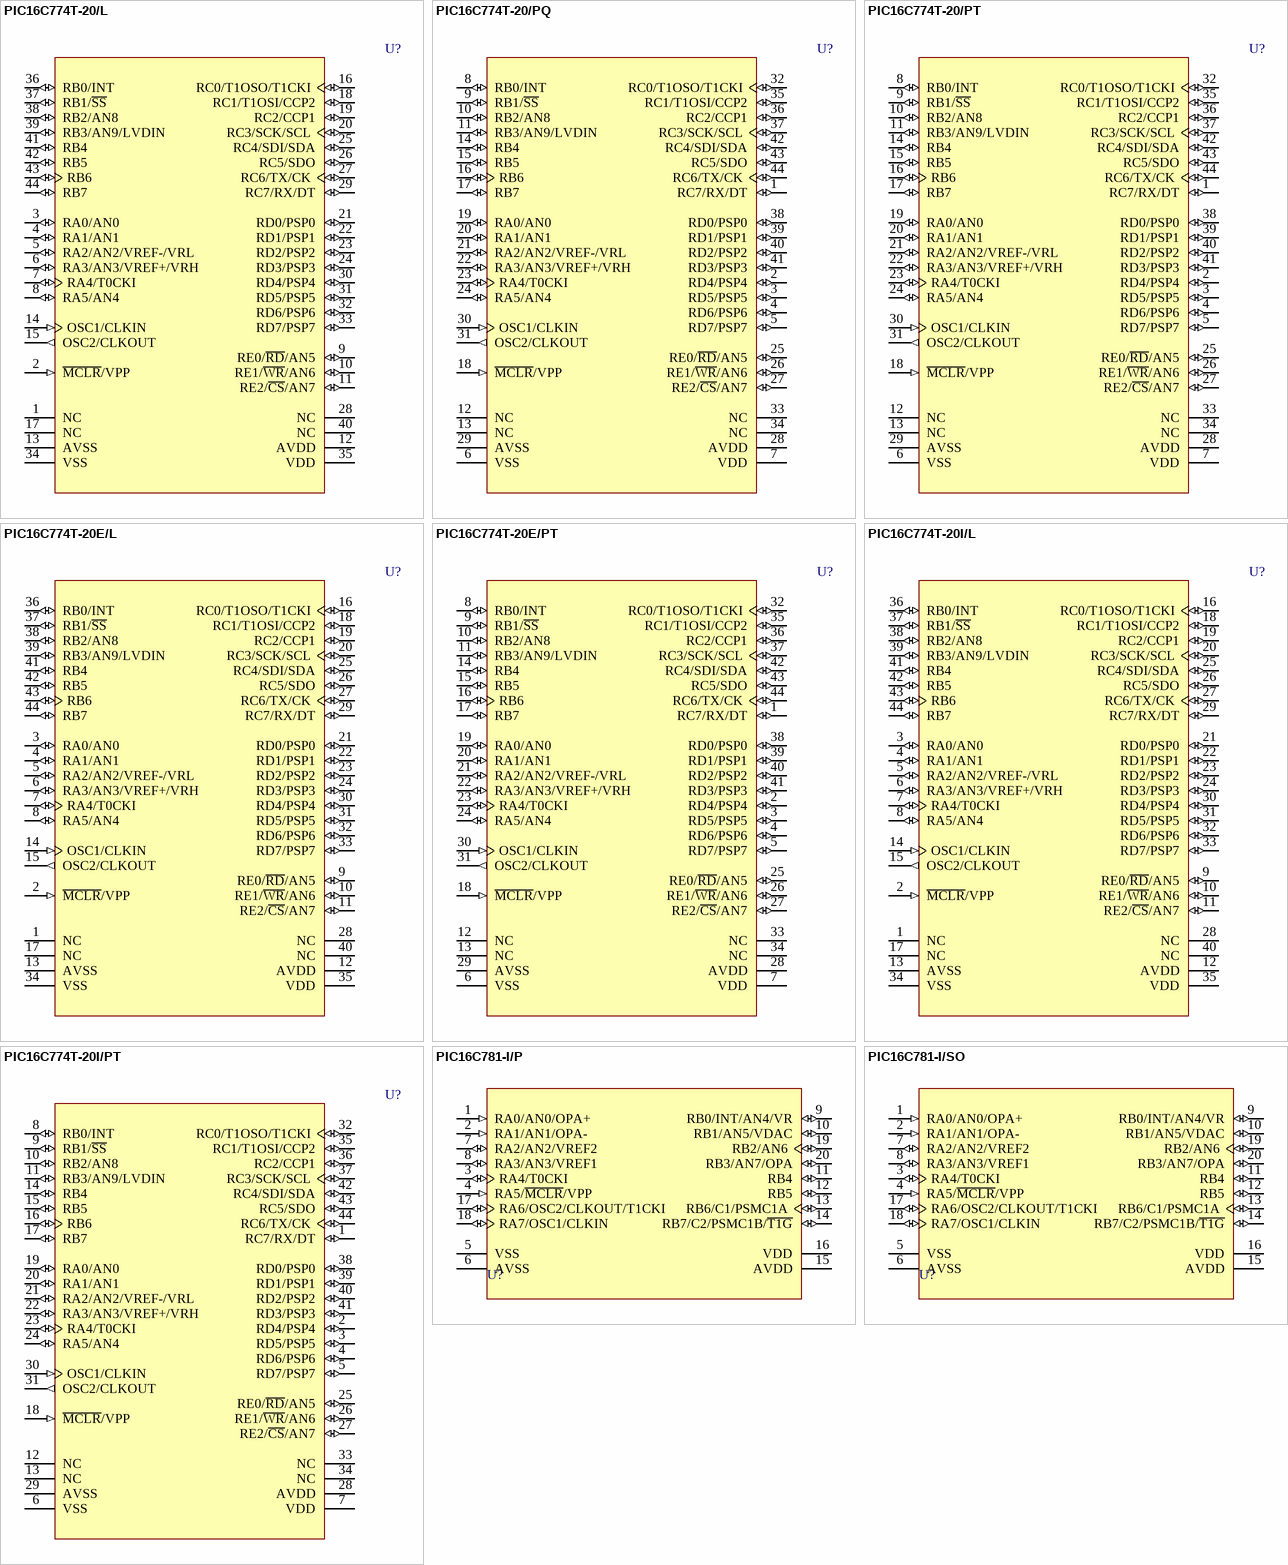
[diagram p68: symbols PIC16C774T-20/L to PIC16C781-I/SO]

## PIC16C774T-20/L
designator U?
8-Bit CMOS Microcontroller with 12-Bit A/D, 4K x 14 words EPROM, 256 x 8 Bytes RAM, 44-Pin PLCC, 4.0 to 5.5V Supply Range, Commercial Temperature, Tape and Reel; Note: 25mA source/sink per I/O.; Published: 11-Oct-2004; LatestRevisionDate: 13-Apr-2006; LatestRevisionNote: IPC-7351 Footprint Added.; DatasheetVersion: DS30275A_1999; PackageVersion: 2003; PackageReference: PLCC-44; Publisher: Altium Limited; PackageDescription: 44-Pin Leaded Chip Carrier 1.27 mm Pitch; Code_JEDEC: MO-047; Code_IPC: PLCC-44; ComponentLink1Description: Manufacturer Link; ComponentLink1URL: http://www.microchip.com; ComponentLink2Description: Datasheet; ComponentLink2URL: http://ww1.microchip.com/downloads/en/DeviceDoc/30275a.pdf; ComponentLink3Description: Packaging Specification; ComponentLink3URL: http://ww1.microchip.com/downloads/en/PackagingSpec/00049AD.pdf
footprint PLCC-44_N (Leaded Chip Carrier, 44-Leads, Body 16.6x16.6mm, Pitch 1.27mm, IPC Medium Density)
footprint PLCC-44_L (Leaded Chip Carrier, 44-Leads, Body 16.6x16.6mm, Pitch 1.27mm, IPC High Density)
footprint PLCC-44_M (Leaded Chip Carrier, 44-Leads, Body 16.6x16.6mm, Pitch 1.27mm, IPC Low Density)
3D model PIC16C774-PLCC-44 (44-Pin Leaded Chip Carrier 1.27 mm Pitch)
pins: 1 NC, 2 ~{MCLR}/VPP (in), 3 RA0/AN0 (io), 4 RA1/AN1 (io), 5 RA2/AN2/VREF-/VRL (io), 6 RA3/AN3/VREF+/VRH (io), 7 RA4/T0CKI (io), 8 RA5/AN4 (io), 9 RE0/~{RD}/AN5 (io), 10 RE1/~{WR}/AN6 (io), 11 RE2/~{CS}/AN7 (io), 12 AVDD (power), 13 AVSS (power), 14 OSC1/CLKIN (in), 15 OSC2/CLKOUT (out), 16 RC0/T1OSO/T1CKI (io), 17 NC, 18 RC1/T1OSI/CCP2 (io), 19 RC2/CCP1 (io), 20 RC3/SCK/SCL (io), 21 RD0/PSP0 (io), 22 RD1/PSP1 (io), 23 RD2/PSP2 (io), 24 RD3/PSP3 (io), 25 RC4/SDI/SDA (io), 26 RC5/SDO (io), 27 RC6/TX/CK (io), 28 NC, 29 RC7/RX/DT (io), 30 RD4/PSP4 (io), 31 RD5/PSP5 (io), 32 RD6/PSP6 (io), 33 RD7/PSP7 (io), 34 VSS (power), 35 VDD (power), 36 RB0/INT (io), 37 RB1/~{SS} (io), 38 RB2/AN8 (io), 39 RB3/AN9/LVDIN (io), 40 NC, 41 RB4 (io), 42 RB5 (io), 43 RB6 (io), 44 RB7 (io)

## PIC16C774T-20/PQ
designator U?
8-Bit CMOS Microcontroller with 12-Bit A/D, 4K x 14 words EPROM, 256 x 8 Bytes RAM, 44-Pin MQFP, 4.0 to 5.5V Supply Range, Commercial Temperature, Tape and Reel; Note: 25mA source/sink per I/O.; Published: 11-Oct-2004; LatestRevisionDate: 13-Apr-2006; LatestRevisionNote: IPC-7351 Footprint Added.; DatasheetVersion: DS30275A_1999; PackageVersion: 2003; PackageReference: MQFP-44; Publisher: Altium Limited; PackageDescription: 44-Pin Plastic Metric Quad Flat Pack 0.8 mm Pitch, 1.6/0.15 mm Lead Form; Code_JEDEC: MS-022; Code_IPC: QFP80P1320X1320-44; ComponentLink1Description: Manufacturer Link; ComponentLink1URL: http://www.microchip.com; ComponentLink2Description: Datasheet; ComponentLink2URL: http://ww1.microchip.com/downloads/en/DeviceDoc/30275a.pdf; ComponentLink3Description: Packaging Specification; ComponentLink3URL: http://ww1.microchip.com/downloads/en/PackagingSpec/00049AD.pdf
footprint MQFP-44_N (QFP, 44-Leads, Body 10x10mm, Pitch 0.8mm, IPC Medium Density)
footprint MQFP-44_L (QFP, 44-Leads, Body 10x10mm, Pitch 0.8mm, IPC High Density)
footprint MQFP-44_M (QFP, 44-Leads, Body 10x10mm, Pitch 0.8mm, IPC Low Density)
3D model PIC16C774-MQFP-44 (44-Pin Plastic Metric Quad Flat Pack 0.8 mm Pitch, 1.6/0.15 mm Lead Form)
pins: 1 RC7/RX/DT (io), 2 RD4/PSP4 (io), 3 RD5/PSP5 (io), 4 RD6/PSP6 (io), 5 RD7/PSP7 (io), 6 VSS (power), 7 VDD (power), 8 RB0/INT (io), 9 RB1/~{SS} (io), 10 RB2/AN8 (io), 11 RB3/AN9/LVDIN (io), 12 NC, 13 NC, 14 RB4 (io), 15 RB5 (io), 16 RB6 (io), 17 RB7 (io), 18 ~{MCLR}/VPP (in), 19 RA0/AN0 (io), 20 RA1/AN1 (io), 21 RA2/AN2/VREF-/VRL (io), 22 RA3/AN3/VREF+/VRH (io), 23 RA4/T0CKI (io), 24 RA5/AN4 (io), 25 RE0/~{RD}/AN5 (io), 26 RE1/~{WR}/AN6 (io), 27 RE2/~{CS}/AN7 (io), 28 AVDD (power), 29 AVSS (power), 30 OSC1/CLKIN (in), 31 OSC2/CLKOUT (out), 32 RC0/T1OSO/T1CKI (io), 33 NC, 34 NC, 35 RC1/T1OSI/CCP2 (io), 36 RC2/CCP1 (io), 37 RC3/SCK/SCL (io), 38 RD0/PSP0 (io), 39 RD1/PSP1 (io), 40 RD2/PSP2 (io), 41 RD3/PSP3 (io), 42 RC4/SDI/SDA (io), 43 RC5/SDO (io), 44 RC6/TX/CK (io)

## PIC16C774T-20/PT
designator U?
8-Bit CMOS Microcontroller with 12-Bit A/D, 4K x 14 words EPROM, 256 x 8 Bytes RAM, 44-Pin TQFP, 4.0 to 5.5V Supply Range, Commercial Temperature, Tape and Reel; Note: 25mA source/sink per I/O.; Published: 11-Oct-2004; LatestRevisionDate: 13-Apr-2006; LatestRevisionNote: IPC-7351 Footprint Added.; DatasheetVersion: DS30275A_1999; PackageVersion: 2003; PackageReference: TQFP-44; Publisher: Altium Limited; PackageDescription: 44-Pin Thin Quad Flat Pack 0.8 mm Pitch, 1.0/0.1 mm Lead Form; Code_JEDEC: MS-026; ComponentLink1Description: Manufacturer Link; ComponentLink1URL: http://www.microchip.com; ComponentLink2Description: Datasheet; ComponentLink2URL: http://ww1.microchip.com/downloads/en/DeviceDoc/30275a.pdf; ComponentLink3Description: Packaging Specification; ComponentLink3URL: http://ww1.microchip.com/downloads/en/PackagingSpec/00049AD.pdf
footprint TQFP-44_N (Thin QFP, 44-Leads, Body 10x10mm, Pitch 0.8mm, IPC Medium Density)
footprint TQFP-44_L (Thin QFP, 44-Leads, Body 10x10mm, Pitch 0.8mm, IPC High Density)
footprint TQFP-44_M (Thin QFP, 44-Leads, Body 10x10mm, Pitch 0.8mm, IPC Low Density)
3D model PIC16C774-TQFP-44 (44-Pin Thin Quad Flat Pack 0.8 mm Pitch, 1.0/0.1 mm Lead Form)
pins: 1 RC7/RX/DT (io), 2 RD4/PSP4 (io), 3 RD5/PSP5 (io), 4 RD6/PSP6 (io), 5 RD7/PSP7 (io), 6 VSS (power), 7 VDD (power), 8 RB0/INT (io), 9 RB1/~{SS} (io), 10 RB2/AN8 (io), 11 RB3/AN9/LVDIN (io), 12 NC, 13 NC, 14 RB4 (io), 15 RB5 (io), 16 RB6 (io), 17 RB7 (io), 18 ~{MCLR}/VPP (in), 19 RA0/AN0 (io), 20 RA1/AN1 (io), 21 RA2/AN2/VREF-/VRL (io), 22 RA3/AN3/VREF+/VRH (io), 23 RA4/T0CKI (io), 24 RA5/AN4 (io), 25 RE0/~{RD}/AN5 (io), 26 RE1/~{WR}/AN6 (io), 27 RE2/~{CS}/AN7 (io), 28 AVDD (power), 29 AVSS (power), 30 OSC1/CLKIN (in), 31 OSC2/CLKOUT (out), 32 RC0/T1OSO/T1CKI (io), 33 NC, 34 NC, 35 RC1/T1OSI/CCP2 (io), 36 RC2/CCP1 (io), 37 RC3/SCK/SCL (io), 38 RD0/PSP0 (io), 39 RD1/PSP1 (io), 40 RD2/PSP2 (io), 41 RD3/PSP3 (io), 42 RC4/SDI/SDA (io), 43 RC5/SDO (io), 44 RC6/TX/CK (io)

## PIC16C774T-20E/L
designator U?
8-Bit CMOS Microcontroller with 12-Bit A/D, 4K x 14 words EPROM, 256 x 8 Bytes RAM, 44-Pin PLCC, 4.0 to 5.5V Supply Range, Extended Temperature, Tape and Reel; Note: 25mA source/sink per I/O.; Published: 11-Oct-2004; LatestRevisionDate: 13-Apr-2006; LatestRevisionNote: IPC-7351 Footprint Added.; DatasheetVersion: DS30275A_1999; PackageVersion: 2003; PackageReference: PLCC-44; Publisher: Altium Limited; PackageDescription: 44-Pin Leaded Chip Carrier 1.27 mm Pitch; Code_JEDEC: MO-047; Code_IPC: PLCC-44; ComponentLink1Description: Manufacturer Link; ComponentLink1URL: http://www.microchip.com; ComponentLink2Description: Datasheet; ComponentLink2URL: http://ww1.microchip.com/downloads/en/DeviceDoc/30275a.pdf; ComponentLink3Description: Packaging Specification; ComponentLink3URL: http://ww1.microchip.com/downloads/en/PackagingSpec/00049AD.pdf
footprint PLCC-44_N (Leaded Chip Carrier, 44-Leads, Body 16.6x16.6mm, Pitch 1.27mm, IPC Medium Density)
footprint PLCC-44_L (Leaded Chip Carrier, 44-Leads, Body 16.6x16.6mm, Pitch 1.27mm, IPC High Density)
footprint PLCC-44_M (Leaded Chip Carrier, 44-Leads, Body 16.6x16.6mm, Pitch 1.27mm, IPC Low Density)
3D model PIC16C774-PLCC-44 (44-Pin Leaded Chip Carrier 1.27 mm Pitch)
pins: 1 NC, 2 ~{MCLR}/VPP (in), 3 RA0/AN0 (io), 4 RA1/AN1 (io), 5 RA2/AN2/VREF-/VRL (io), 6 RA3/AN3/VREF+/VRH (io), 7 RA4/T0CKI (io), 8 RA5/AN4 (io), 9 RE0/~{RD}/AN5 (io), 10 RE1/~{WR}/AN6 (io), 11 RE2/~{CS}/AN7 (io), 12 AVDD (power), 13 AVSS (power), 14 OSC1/CLKIN (in), 15 OSC2/CLKOUT (out), 16 RC0/T1OSO/T1CKI (io), 17 NC, 18 RC1/T1OSI/CCP2 (io), 19 RC2/CCP1 (io), 20 RC3/SCK/SCL (io), 21 RD0/PSP0 (io), 22 RD1/PSP1 (io), 23 RD2/PSP2 (io), 24 RD3/PSP3 (io), 25 RC4/SDI/SDA (io), 26 RC5/SDO (io), 27 RC6/TX/CK (io), 28 NC, 29 RC7/RX/DT (io), 30 RD4/PSP4 (io), 31 RD5/PSP5 (io), 32 RD6/PSP6 (io), 33 RD7/PSP7 (io), 34 VSS (power), 35 VDD (power), 36 RB0/INT (io), 37 RB1/~{SS} (io), 38 RB2/AN8 (io), 39 RB3/AN9/LVDIN (io), 40 NC, 41 RB4 (io), 42 RB5 (io), 43 RB6 (io), 44 RB7 (io)

## PIC16C774T-20E/PT
designator U?
8-Bit CMOS Microcontroller with 12-Bit A/D, 4K x 14 words EPROM, 256 x 8 Bytes RAM, 44-Pin TQFP, 4.0 to 5.5V Supply Range, Extended Temperature, Tape and Reel; Note: 25mA source/sink per I/O.; Published: 11-Oct-2004; LatestRevisionDate: 13-Apr-2006; LatestRevisionNote: IPC-7351 Footprint Added.; DatasheetVersion: DS30275A_1999; PackageVersion: 2003; PackageReference: TQFP-44; Publisher: Altium Limited; PackageDescription: 44-Pin Thin Quad Flat Pack 0.8 mm Pitch, 1.0/0.1 mm Lead Form; Code_JEDEC: MS-026; ComponentLink1Description: Manufacturer Link; ComponentLink1URL: http://www.microchip.com; ComponentLink2Description: Datasheet; ComponentLink2URL: http://ww1.microchip.com/downloads/en/DeviceDoc/30275a.pdf; ComponentLink3Description: Packaging Specification; ComponentLink3URL: http://ww1.microchip.com/downloads/en/PackagingSpec/00049AD.pdf
footprint TQFP-44_N (Thin QFP, 44-Leads, Body 10x10mm, Pitch 0.8mm, IPC Medium Density)
footprint TQFP-44_L (Thin QFP, 44-Leads, Body 10x10mm, Pitch 0.8mm, IPC High Density)
footprint TQFP-44_M (Thin QFP, 44-Leads, Body 10x10mm, Pitch 0.8mm, IPC Low Density)
3D model PIC16C774-TQFP-44 (44-Pin Thin Quad Flat Pack 0.8 mm Pitch, 1.0/0.1 mm Lead Form)
pins: 1 RC7/RX/DT (io), 2 RD4/PSP4 (io), 3 RD5/PSP5 (io), 4 RD6/PSP6 (io), 5 RD7/PSP7 (io), 6 VSS (power), 7 VDD (power), 8 RB0/INT (io), 9 RB1/~{SS} (io), 10 RB2/AN8 (io), 11 RB3/AN9/LVDIN (io), 12 NC, 13 NC, 14 RB4 (io), 15 RB5 (io), 16 RB6 (io), 17 RB7 (io), 18 ~{MCLR}/VPP (in), 19 RA0/AN0 (io), 20 RA1/AN1 (io), 21 RA2/AN2/VREF-/VRL (io), 22 RA3/AN3/VREF+/VRH (io), 23 RA4/T0CKI (io), 24 RA5/AN4 (io), 25 RE0/~{RD}/AN5 (io), 26 RE1/~{WR}/AN6 (io), 27 RE2/~{CS}/AN7 (io), 28 AVDD (power), 29 AVSS (power), 30 OSC1/CLKIN (in), 31 OSC2/CLKOUT (out), 32 RC0/T1OSO/T1CKI (io), 33 NC, 34 NC, 35 RC1/T1OSI/CCP2 (io), 36 RC2/CCP1 (io), 37 RC3/SCK/SCL (io), 38 RD0/PSP0 (io), 39 RD1/PSP1 (io), 40 RD2/PSP2 (io), 41 RD3/PSP3 (io), 42 RC4/SDI/SDA (io), 43 RC5/SDO (io), 44 RC6/TX/CK (io)

## PIC16C774T-20I/L
designator U?
8-Bit CMOS Microcontroller with 12-Bit A/D, 4K x 14 words EPROM, 256 x 8 Bytes RAM, 44-Pin PLCC, 4.0 to 5.5V Supply Range, Industrial Temperature, Tape and Reel; Note: 25mA source/sink per I/O.; Published: 11-Oct-2004; LatestRevisionDate: 13-Apr-2006; LatestRevisionNote: IPC-7351 Footprint Added.; DatasheetVersion: DS30275A_1999; PackageVersion: 2003; PackageReference: PLCC-44; Publisher: Altium Limited; PackageDescription: 44-Pin Leaded Chip Carrier 1.27 mm Pitch; Code_JEDEC: MO-047; Code_IPC: PLCC-44; ComponentLink1Description: Manufacturer Link; ComponentLink1URL: http://www.microchip.com; ComponentLink2Description: Datasheet; ComponentLink2URL: http://ww1.microchip.com/downloads/en/DeviceDoc/30275a.pdf; ComponentLink3Description: Packaging Specification; ComponentLink3URL: http://ww1.microchip.com/downloads/en/PackagingSpec/00049AD.pdf
footprint PLCC-44_N (Leaded Chip Carrier, 44-Leads, Body 16.6x16.6mm, Pitch 1.27mm, IPC Medium Density)
footprint PLCC-44_L (Leaded Chip Carrier, 44-Leads, Body 16.6x16.6mm, Pitch 1.27mm, IPC High Density)
footprint PLCC-44_M (Leaded Chip Carrier, 44-Leads, Body 16.6x16.6mm, Pitch 1.27mm, IPC Low Density)
3D model PIC16C774-PLCC-44 (44-Pin Leaded Chip Carrier 1.27 mm Pitch)
pins: 1 NC, 2 ~{MCLR}/VPP (in), 3 RA0/AN0 (io), 4 RA1/AN1 (io), 5 RA2/AN2/VREF-/VRL (io), 6 RA3/AN3/VREF+/VRH (io), 7 RA4/T0CKI (io), 8 RA5/AN4 (io), 9 RE0/~{RD}/AN5 (io), 10 RE1/~{WR}/AN6 (io), 11 RE2/~{CS}/AN7 (io), 12 AVDD (power), 13 AVSS (power), 14 OSC1/CLKIN (in), 15 OSC2/CLKOUT (out), 16 RC0/T1OSO/T1CKI (io), 17 NC, 18 RC1/T1OSI/CCP2 (io), 19 RC2/CCP1 (io), 20 RC3/SCK/SCL (io), 21 RD0/PSP0 (io), 22 RD1/PSP1 (io), 23 RD2/PSP2 (io), 24 RD3/PSP3 (io), 25 RC4/SDI/SDA (io), 26 RC5/SDO (io), 27 RC6/TX/CK (io), 28 NC, 29 RC7/RX/DT (io), 30 RD4/PSP4 (io), 31 RD5/PSP5 (io), 32 RD6/PSP6 (io), 33 RD7/PSP7 (io), 34 VSS (power), 35 VDD (power), 36 RB0/INT (io), 37 RB1/~{SS} (io), 38 RB2/AN8 (io), 39 RB3/AN9/LVDIN (io), 40 NC, 41 RB4 (io), 42 RB5 (io), 43 RB6 (io), 44 RB7 (io)

## PIC16C774T-20I/PT
designator U?
8-Bit CMOS Microcontroller with 12-Bit A/D, 4K x 14 words EPROM, 256 x 8 Bytes RAM, 44-Pin TQFP, 4.0 to 5.5V Supply Range, Industrial Temperature, Tape and Reel; Note: 25mA source/sink per I/O.; Published: 11-Oct-2004; LatestRevisionDate: 13-Apr-2006; LatestRevisionNote: IPC-7351 Footprint Added.; DatasheetVersion: DS30275A_1999; PackageVersion: 2003; PackageReference: TQFP-44; Publisher: Altium Limited; PackageDescription: 44-Pin Thin Quad Flat Pack 0.8 mm Pitch, 1.0/0.1 mm Lead Form; Code_JEDEC: MS-026; ComponentLink1Description: Manufacturer Link; ComponentLink1URL: http://www.microchip.com; ComponentLink2Description: Datasheet; ComponentLink2URL: http://ww1.microchip.com/downloads/en/DeviceDoc/30275a.pdf; ComponentLink3Description: Packaging Specification; ComponentLink3URL: http://ww1.microchip.com/downloads/en/PackagingSpec/00049AD.pdf
footprint TQFP-44_N (Thin QFP, 44-Leads, Body 10x10mm, Pitch 0.8mm, IPC Medium Density)
footprint TQFP-44_L (Thin QFP, 44-Leads, Body 10x10mm, Pitch 0.8mm, IPC High Density)
footprint TQFP-44_M (Thin QFP, 44-Leads, Body 10x10mm, Pitch 0.8mm, IPC Low Density)
3D model PIC16C774-TQFP-44 (44-Pin Thin Quad Flat Pack 0.8 mm Pitch, 1.0/0.1 mm Lead Form)
pins: 1 RC7/RX/DT (io), 2 RD4/PSP4 (io), 3 RD5/PSP5 (io), 4 RD6/PSP6 (io), 5 RD7/PSP7 (io), 6 VSS (power), 7 VDD (power), 8 RB0/INT (io), 9 RB1/~{SS} (io), 10 RB2/AN8 (io), 11 RB3/AN9/LVDIN (io), 12 NC, 13 NC, 14 RB4 (io), 15 RB5 (io), 16 RB6 (io), 17 RB7 (io), 18 ~{MCLR}/VPP (in), 19 RA0/AN0 (io), 20 RA1/AN1 (io), 21 RA2/AN2/VREF-/VRL (io), 22 RA3/AN3/VREF+/VRH (io), 23 RA4/T0CKI (io), 24 RA5/AN4 (io), 25 RE0/~{RD}/AN5 (io), 26 RE1/~{WR}/AN6 (io), 27 RE2/~{CS}/AN7 (io), 28 AVDD (power), 29 AVSS (power), 30 OSC1/CLKIN (in), 31 OSC2/CLKOUT (out), 32 RC0/T1OSO/T1CKI (io), 33 NC, 34 NC, 35 RC1/T1OSI/CCP2 (io), 36 RC2/CCP1 (io), 37 RC3/SCK/SCL (io), 38 RD0/PSP0 (io), 39 RD1/PSP1 (io), 40 RD2/PSP2 (io), 41 RD3/PSP3 (io), 42 RC4/SDI/SDA (io), 43 RC5/SDO (io), 44 RC6/TX/CK (io)

## PIC16C781-I/P
designator U?
8-Bit CMOS Microcontroller with A/D, D/A, OPAMP, Comparators and PSMC, 1K (x14-Bit words) EPROM, 128 Bytes RAM, 20-Pin PDIP, 4.0 to 5.5V Supply Range, Industrial Temperature; Note: AVDD and AVSS pins are used for modules C1, C2, OPA, DAC, ADC, and VR.; Published: 11-Oct-2004; LatestRevisionDate: 04-Mar-2005; LatestRevisionNote: Stylized 3D Model Added.; DatasheetVersion: DS41171A_2001; PackageVersion: 2003; PackageReference: PDIP300-20; Publisher: Altium Limited; PackageDescription: DIP, Plastic; 20 Leads; Row Spacing 7.62 mm; Pitch 2.54 mm; Code_JEDEC: MS-001; ComponentLink1Description: Manufacturer Link; ComponentLink1URL: http://www.microchip.com; ComponentLink2Description: Datasheet; ComponentLink2URL: http://ww1.microchip.com/downloads/en/DeviceDoc/41171a.pdf; ComponentLink3Description: Packaging Specification; ComponentLink3URL: http://ww1.microchip.com/downloads/en/PackagingSpec/00049AD.pdf
footprint PDIP300-20 (DIP, Plastic; 20 Leads; Row Spacing 7.62 mm; Pitch 2.54 mm)
3D model PDIP300-20 (DIP, Plastic; 20 Leads; Row Spacing 7.62 mm; Pitch 2.54 mm)
pins: 1 RA0/AN0/OPA+ (in), 2 RA1/AN1/OPA- (in), 3 RA4/T0CKI (io), 4 RA5/~{MCLR}/VPP (in), 5 VSS (power), 6 AVSS (power), 7 RA2/AN2/VREF2 (io), 8 RA3/AN3/VREF1 (io), 9 RB0/INT/AN4/VR (io), 10 RB1/AN5/VDAC (io), 11 RB4 (io), 12 RB5 (io), 13 RB6/C1/PSMC1A (io), 14 RB7/C2/PSMC1B/~{T1G} (io), 15 AVDD (power), 16 VDD (power), 17 RA6/OSC2/CLKOUT/T1CKI (io), 18 RA7/OSC1/CLKIN (io), 19 RB2/AN6 (io), 20 RB3/AN7/OPA (io)

## PIC16C781-I/SO
designator U?
8-Bit CMOS Microcontroller with A/D, D/A, OPAMP, Comparators and PSMC, 1K (x14-Bit words) EPROM, 128 Bytes RAM, 20-Pin SOIC, 4.0 to 5.5V Supply Range, Industrial Temperature; Note: AVDD and AVSS pins are used for modules C1, C2, OPA, DAC, ADC, and VR.; Published: 11-Oct-2004; LatestRevisionDate: 13-Apr-2006; LatestRevisionNote: IPC-7351 Footprint Added.; DatasheetVersion: DS41171A_2001; PackageVersion: 2003; PackageReference: SOIC300-20; Publisher: Altium Limited; PackageDescription: 20-Pin Plastic Wide Body Small Outline Integrated Circuit 1.27 mm Pitch; Code_JEDEC: MS-013-AC; Code_IPC: SOIC127P1030-20; ComponentLink1Description: Manufacturer Link; ComponentLink1URL: http://www.microchip.com; ComponentLink2Description: Datasheet; ComponentLink2URL: http://ww1.microchip.com/downloads/en/DeviceDoc/41171a.pdf; ComponentLink3Description: Packaging Specification; ComponentLink3URL: http://ww1.microchip.com/downloads/en/PackagingSpec/00049AD.pdf
footprint SOIC300-20_N (SOIC, 20-Leads, Body 12.8x7.5mm, Pitch 1.27mm, IPC Medium Density)
footprint SOIC300-20_L (SOIC, 20-Leads, Body 12.8x7.5mm, Pitch 1.27mm, IPC High Density)
footprint SOIC300-20_M (SOIC, 20-Leads, Body 12.8x7.5mm, Pitch 1.27mm, IPC Low Density)
3D model SOIC300-20 (20-Pin Plastic Wide Body Small Outline Integrated Circuit 1.27 mm Pitch)
pins: 1 RA0/AN0/OPA+ (in), 2 RA1/AN1/OPA- (in), 3 RA4/T0CKI (io), 4 RA5/~{MCLR}/VPP (in), 5 VSS (power), 6 AVSS (power), 7 RA2/AN2/VREF2 (io), 8 RA3/AN3/VREF1 (io), 9 RB0/INT/AN4/VR (io), 10 RB1/AN5/VDAC (io), 11 RB4 (io), 12 RB5 (io), 13 RB6/C1/PSMC1A (io), 14 RB7/C2/PSMC1B/~{T1G} (io), 15 AVDD (power), 16 VDD (power), 17 RA6/OSC2/CLKOUT/T1CKI (io), 18 RA7/OSC1/CLKIN (io), 19 RB2/AN6 (io), 20 RB3/AN7/OPA (io)

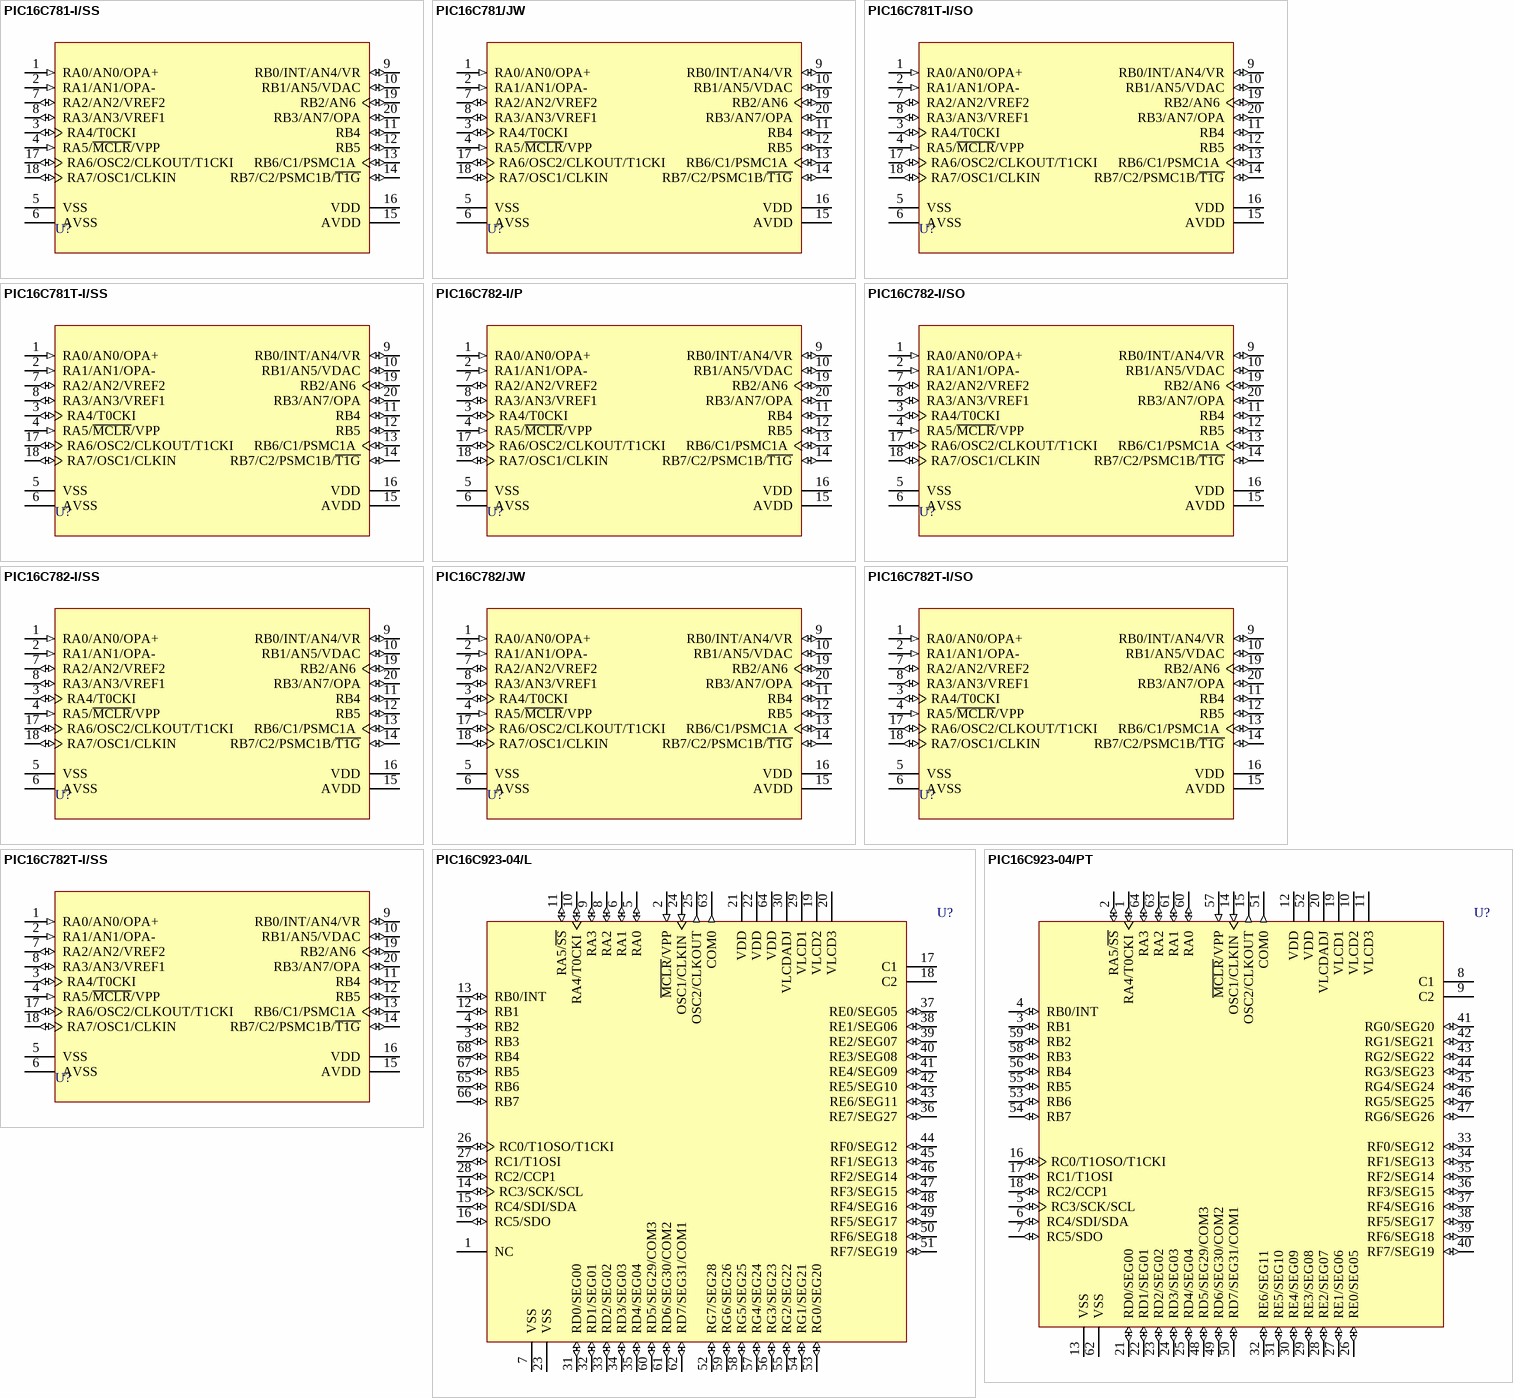
[diagram p69: symbols PIC16C781-I/SS to PIC16C923-04/PT]

## PIC16C781-I/SS
designator U?
8-Bit CMOS Microcontroller with A/D, D/A, OPAMP, Comparators and PSMC, 1K (x14-Bit words) EPROM, 128 Bytes RAM, 20-Pin SSOP, 4.0 to 5.5V Supply Range, Industrial Temperature; Note: AVDD and AVSS pins are used for modules C1, C2, OPA, DAC, ADC, and VR.; Published: 11-Oct-2004; LatestRevisionDate: 04-Mar-2005; LatestRevisionNote: Stylized 3D Model Added.; DatasheetVersion: DS41171A_2001; PackageVersion: 2003; PackageReference: SSOP-20; Publisher: Altium Limited; PackageDescription: SSOP, Plastic; 20 Leads; Body Width 5.3 mm; Pitch 0.65 mm; Code_JEDEC: MO-150; ComponentLink1Description: Manufacturer Link; ComponentLink1URL: http://www.microchip.com; ComponentLink2Description: Datasheet; ComponentLink2URL: http://ww1.microchip.com/downloads/en/DeviceDoc/41171a.pdf; ComponentLink3Description: Packaging Specification; ComponentLink3URL: http://ww1.microchip.com/downloads/en/PackagingSpec/00049AD.pdf
footprint SSOP-20 (SSOP, Plastic; 20 Leads; Body Width 5.3 mm; Pitch 0.65 mm)
3D model SSOP-20 (SSOP, Plastic; 20 Leads; Body Width 5.3 mm; Pitch 0.65 mm)
pins: 1 RA0/AN0/OPA+ (in), 2 RA1/AN1/OPA- (in), 3 RA4/T0CKI (io), 4 RA5/~{MCLR}/VPP (in), 5 VSS (power), 6 AVSS (power), 7 RA2/AN2/VREF2 (io), 8 RA3/AN3/VREF1 (io), 9 RB0/INT/AN4/VR (io), 10 RB1/AN5/VDAC (io), 11 RB4 (io), 12 RB5 (io), 13 RB6/C1/PSMC1A (io), 14 RB7/C2/PSMC1B/~{T1G} (io), 15 AVDD (power), 16 VDD (power), 17 RA6/OSC2/CLKOUT/T1CKI (io), 18 RA7/OSC1/CLKIN (io), 19 RB2/AN6 (io), 20 RB3/AN7/OPA (io)

## PIC16C781/JW
designator U?
8-Bit CMOS Microcontroller with A/D, D/A, OPAMP, Comparators and PSMC, 1K (x14-Bit words) EPROM, 128 Bytes RAM, 20-Pin CERDIP, UV Erasable, 4.0 to 5.5V Supply Range, Commercial Temperature; Note: JW Devices can be programmed to any device configuration.; Note: JW Devices meet the electrical requirement of each oscillator type.; Note: AVDD and AVSS pins are used for modules C1, C2, OPA, DAC, ADC, and VR.; Published: 11-Oct-2004; LatestRevisionDate: 04-Mar-2005; LatestRevisionNote: Stylized 3D Model Added.; DatasheetVersion: DS41171A_2001; PackageVersion: 2003; PackageReference: CERDIP300W-20; Publisher: Altium Limited; PackageDescription: DIP, Ceramic, Window; 20 Leads; Row Spacing 7.62 mm; Pitch 2.54 mm; Code_JEDEC: MS-030; ComponentLink1Description: Manufacturer Link; ComponentLink1URL: http://www.microchip.com; ComponentLink2Description: Datasheet; ComponentLink2URL: http://ww1.microchip.com/downloads/en/DeviceDoc/41171a.pdf; ComponentLink3Description: Packaging Specification; ComponentLink3URL: http://ww1.microchip.com/downloads/en/PackagingSpec/00049AD.pdf
footprint CERDIP300W-20 (DIP, Ceramic, Window; 20 Leads; Row Spacing 7.62 mm; Pitch 2.54 mm)
3D model CERDIP300W-20 (DIP, Ceramic, Window; 20 Leads; Row Spacing 7.62 mm; Pitch 2.54 mm)
pins: 1 RA0/AN0/OPA+ (in), 2 RA1/AN1/OPA- (in), 3 RA4/T0CKI (io), 4 RA5/~{MCLR}/VPP (in), 5 VSS (power), 6 AVSS (power), 7 RA2/AN2/VREF2 (io), 8 RA3/AN3/VREF1 (io), 9 RB0/INT/AN4/VR (io), 10 RB1/AN5/VDAC (io), 11 RB4 (io), 12 RB5 (io), 13 RB6/C1/PSMC1A (io), 14 RB7/C2/PSMC1B/~{T1G} (io), 15 AVDD (power), 16 VDD (power), 17 RA6/OSC2/CLKOUT/T1CKI (io), 18 RA7/OSC1/CLKIN (io), 19 RB2/AN6 (io), 20 RB3/AN7/OPA (io)